# Altium footprint library HCM1A1307V2-5R6-R.PcbLib: 1 footprints
Each footprint in its own frame and in the unit in brackets; x right, y up, seen from the top. Pads: shape width x height; smd on the part's side, far side on the other; paste and mask are expansions set on the pad; w line width, h text height; cw(c..) or ccw(c..) is an arc to the next point about the centre after c.
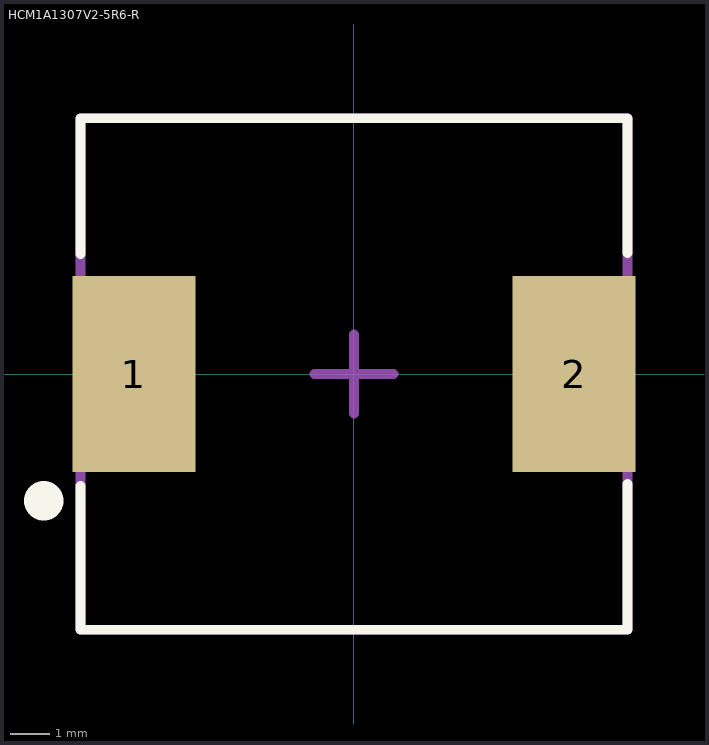
[diagram p0: the footprint, top view; thin cyan lines are the x and y axes]

## HCM1A1307V2-5R6-R [mm]
pads (2):
  rect 3.1x4.95 smd mask+0.051: 1(-5.55,0) 2(5.55,0)
Top Overlay:
  circle w1: c-7.825,-3.2 r0.001
  lines w0.25: -6.9,-2.825 -6.9,-6.45 6.9,-6.45 6.9,-2.775 ; -6.9,3.025 -6.9,6.45 6.9,6.45 6.9,3.05
Mechanical 13:
  lines w0.25: -6.9,-6.45 6.9,-6.45 6.9,6.45 -6.9,6.45 -6.9,-6.45
Mechanical 15:
  lines w0.25: -1,0 0,0 ; 0,-1 0,0 ; 0,1 0,0 ; 1,0 0,0
3D body: height 6.5, standoff 0, extent -6.9,-6.45 6.9,6.45